# Altium integrated library Panasonic Relays PhotoMOS.IntLib: 50 symbols (part 2 of 2)
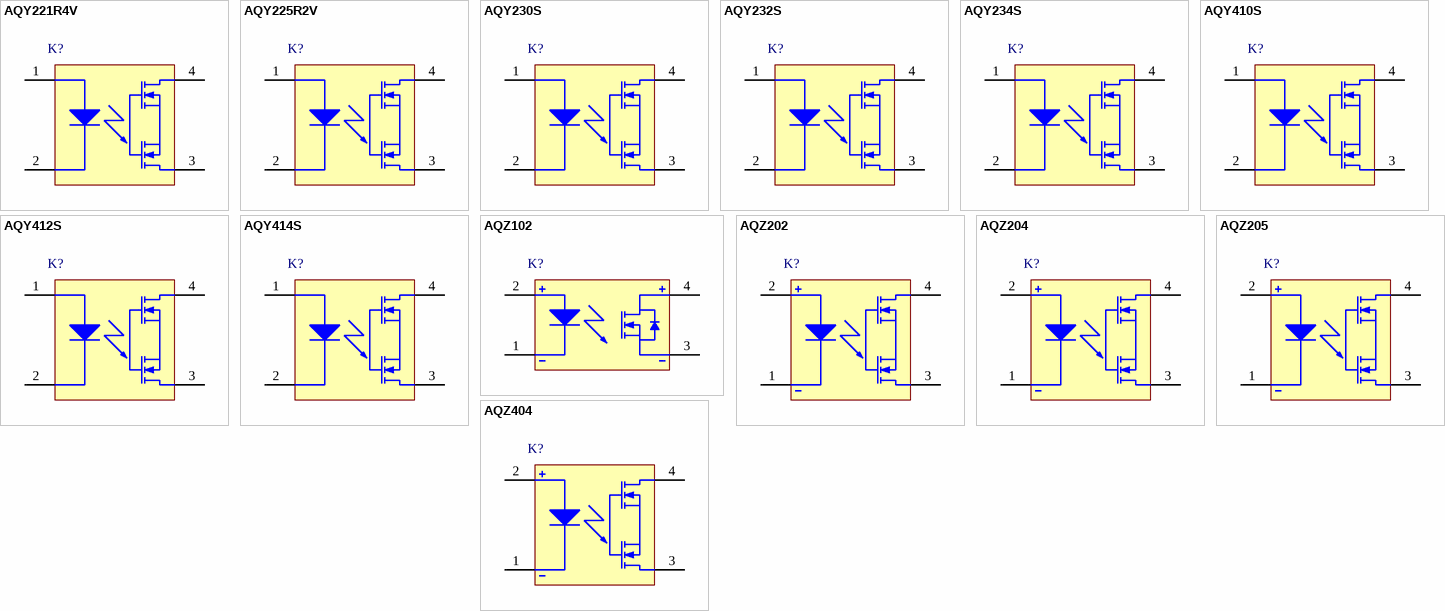
[diagram p2: symbols AQY221R4V to AQZ404]

## AQY232S
designator K?
PhotoMOS HE SOP 1 Form A, 60 V Load Voltage, 0.5 A Continuous Load Current, -40 to 85 degC, 4-Pin SOP, Tube, RoHS; Manufacturer: Panasonic; PartNumber: AQY232S; Continuous Load Current: 0.5 A; Load Voltage: 60 V; On Resistance (Typ): 0.85 Ohm; Pb-Free: True; DatasheetVersion: 201404-T; PackageVersion: ASCTB67E, 04/2014; PackageReference: SOP4; PackageDescription: 4-Pin Small Outline Package, Body 4.4 x 4.3 mm, Pitch 2.54 mm; Supplier 1: Mouser; Supplier Part Number 1: 769-AQY232S; Supplier 2: Digi-Key; Supplier Part Number 2: AQY232S-ND; Packing: Tube; RoHS: True; Series: PhotoMOS HE SOP 1 Form A; Mounting Technology: Surface Mount; ComponentLink1Description: Manufacturer URL; ComponentLink1URL: http://www3.panasonic.biz/ac/ae/index.jsp; ComponentLink2Description: Datasheet; ComponentLink2URL: http://www3.panasonic.biz/ac/e_download/control/relay/photomos/catalog/semi_eng_hs1a_aqy23_s.pdf?f_cd=301342; ComponentLink3Description: Package Specification; ComponentLink3URL: http://www3.panasonic.biz/ac/e_download/control/relay/photomos/catalog/semi_eng_dimensions.pdf?f_cd=401560
footprint PNSC-SOP4_V (SOP, 4-Leads, Body 4.4x4.3mm, Pitch 2.54mm)
pins: 1, 2, 3, 4

## AQY234S
designator K?
PhotoMOS HE SOP 1 Form A, 400 V Load Voltage, 0.1 A Continuous Load Current, -40 to 85 degC, 4-Pin SOP, Tube, RoHS; Manufacturer: Panasonic; PartNumber: AQY234S; Continuous Load Current: 0.1 A; Load Voltage: 400 V; On Resistance (Typ): 27 Ohm; Pb-Free: True; DatasheetVersion: 201404-T; PackageVersion: ASCTB67E, 04/2014; PackageReference: SOP4; PackageDescription: 4-Pin Small Outline Package, Body 4.4 x 4.3 mm, Pitch 2.54 mm; Supplier 1: Mouser; Supplier Part Number 1: 769-AQY234S; Supplier 2: Digi-Key; Supplier Part Number 2: AQY234S-ND; Packing: Tube; RoHS: True; Series: PhotoMOS HE SOP 1 Form A; Mounting Technology: Surface Mount; ComponentLink1Description: Manufacturer URL; ComponentLink1URL: http://www3.panasonic.biz/ac/ae/index.jsp; ComponentLink2Description: Datasheet; ComponentLink2URL: http://www3.panasonic.biz/ac/e_download/control/relay/photomos/catalog/semi_eng_hs1a_aqy23_s.pdf?f_cd=301342; ComponentLink3Description: Package Specification; ComponentLink3URL: http://www3.panasonic.biz/ac/e_download/control/relay/photomos/catalog/semi_eng_dimensions.pdf?f_cd=401560
footprint PNSC-SOP4_V (SOP, 4-Leads, Body 4.4x4.3mm, Pitch 2.54mm)
pins: 1, 2, 3, 4

## AQY410S
designator K?
PhotoMOS GU SOP 1 Form B, 350 V Load Voltage, 0.12 A Continuous Load Current, -40 to 85 degC, 4-Pin SOP, Tube, RoHS; Manufacturer: Panasonic; PartNumber: AQY410S; Continuous Load Current: 0.12 A; Load Voltage: 350 V; On Resistance (Typ): 18 Ohm; Pb-Free: True; DatasheetVersion: 201404-T; PackageVersion: ASCTB67E, 04/2014; PackageReference: SOP4; PackageDescription: 4-Pin Small Outline Package, Body 4.4 x 4.3 mm, Pitch 2.54 mm; Supplier 1: Mouser; Supplier Part Number 1: 769-AQY410S; Supplier 2: Digi-Key; Supplier Part Number 2: 255-1438-5-ND; Packing: Tube; RoHS: True; Series: PhotoMOS GU SOP 1 Form B; Mounting Technology: Surface Mount; ComponentLink1Description: Manufacturer URL; ComponentLink1URL: http://www3.panasonic.biz/ac/ae/index.jsp; ComponentLink2Description: Datasheet; ComponentLink2URL: http://www3.panasonic.biz/ac/e_download/control/relay/photomos/catalog/semi_eng_gu1b_aqy41_s.pdf?f_cd=301192; ComponentLink3Description: Package Specification; ComponentLink3URL: http://www3.panasonic.biz/ac/e_download/control/relay/photomos/catalog/semi_eng_dimensions.pdf?f_cd=401560
footprint PNSC-SOP4_V (SOP, 4-Leads, Body 4.4x4.3mm, Pitch 2.54mm)
pins: 1, 2, 3, 4

## AQY412S
designator K?
PhotoMOS GU SOP 1 Form B, 60 V Load Voltage, 0.5 A Continuous Load Current, -40 to 85 degC, 4-Pin SOP, Tube, RoHS; Manufacturer: Panasonic; PartNumber: AQY412S; Continuous Load Current: 0.5 A; Load Voltage: 60 V; On Resistance (Typ): 1 Ohm; Pb-Free: True; DatasheetVersion: 201404-T; PackageVersion: ASCTB67E, 04/2014; PackageReference: SOP4; PackageDescription: 4-Pin Small Outline Package, Body 4.4 x 4.3 mm, Pitch 2.54 mm; Supplier 1: Mouser; Supplier Part Number 1: 769-AQY412S; Supplier 2: Digi-Key; Supplier Part Number 2: 255-2697-ND; Packing: Tube; RoHS: True; Series: PhotoMOS GU SOP 1 Form B; Mounting Technology: Surface Mount; ComponentLink1Description: Manufacturer URL; ComponentLink1URL: http://www3.panasonic.biz/ac/ae/index.jsp; ComponentLink2Description: Datasheet; ComponentLink2URL: http://www3.panasonic.biz/ac/e_download/control/relay/photomos/catalog/semi_eng_gu1b_aqy41_s.pdf?f_cd=301192; ComponentLink3Description: Package Specification; ComponentLink3URL: http://www3.panasonic.biz/ac/e_download/control/relay/photomos/catalog/semi_eng_dimensions.pdf?f_cd=401560
footprint PNSC-SOP4_V (SOP, 4-Leads, Body 4.4x4.3mm, Pitch 2.54mm)
pins: 1, 2, 3, 4

## AQY414S
designator K?
PhotoMOS GU SOP 1 Form B, 400 V Load Voltage, 0.1 A Continuous Load Current, -40 to 85 degC, 4-Pin SOP, Tube, RoHS; Manufacturer: Panasonic; PartNumber: AQY414S; Continuous Load Current: 0.1 A; Load Voltage: 400 V; On Resistance (Typ): 26 Ohm; Pb-Free: True; DatasheetVersion: 201404-T; PackageVersion: ASCTB67E, 04/2014; PackageReference: SOP4; PackageDescription: 4-Pin Small Outline Package, Body 4.4 x 4.3 mm, Pitch 2.54 mm; Supplier 1: Mouser; Supplier Part Number 1: 769-AQY414S; Supplier 2: Digi-Key; Supplier Part Number 2: 255-1439-5-ND; Packing: Tube; RoHS: True; Series: PhotoMOS GU SOP 1 Form B; Mounting Technology: Surface Mount; ComponentLink1Description: Manufacturer URL; ComponentLink1URL: http://www3.panasonic.biz/ac/ae/index.jsp; ComponentLink2Description: Datasheet; ComponentLink2URL: http://www3.panasonic.biz/ac/e_download/control/relay/photomos/catalog/semi_eng_gu1b_aqy41_s.pdf?f_cd=301192; ComponentLink3Description: Package Specification; ComponentLink3URL: http://www3.panasonic.biz/ac/e_download/control/relay/photomos/catalog/semi_eng_dimensions.pdf?f_cd=401560
footprint PNSC-SOP4_V (SOP, 4-Leads, Body 4.4x4.3mm, Pitch 2.54mm)
pins: 1, 2, 3, 4

## AQZ102
designator K?
PhotoMOS Power 1 Form A, 60 V Load Voltage, 4 A Continuous Load Current, -40 to 85 degC, 4-Pin SIL, Carton, RoHS; Manufacturer: Panasonic; PartNumber: AQZ102; Continuous Load Current: 4 A; Load Voltage: 60 V; On Resistance (Typ): 0.05 Ohm; Pb-Free: True; DatasheetVersion: 201404-T; PackageVersion: ASCTB67E, 04/2014; PackageReference: SIL4; PackageDescription: 4-Pin Through Hole Terminal Package, Body 21 x 3.5 mm; Supplier 1: Mouser; Supplier Part Number 1: 769-AQZ102; Supplier 2: Digi-Key; Supplier Part Number 2: 255-1567-ND; Packing: Carton; RoHS: True; Series: PhotoMOS Power 1 Form A; Mounting Technology: Through Hole; ComponentLink1Description: Manufacturer URL; ComponentLink1URL: http://www3.panasonic.biz/ac/ae/index.jsp; ComponentLink2Description: Datasheet; ComponentLink2URL: http://www3.panasonic.biz/ac/e_download/control/relay/photomos/catalog/semi_eng_pwr1a_aqz10_20.pdf?f_cd=301362; ComponentLink3Description: Package Specification; ComponentLink3URL: http://www3.panasonic.biz/ac/e_download/control/relay/photomos/catalog/semi_eng_dimensions.pdf?f_cd=401560
footprint PNSC-SIL4_V (SIL, 4-Leads, Body 21x3.5mm)
pins: 1 -, 2 +, 3 -, 4 +

## AQZ202
designator K?
PhotoMOS Power 1 Form A, 60 V Load Voltage, 3 A Continuous Load Current, -40 to 85 degC, 4-Pin SIL, Carton, RoHS; Manufacturer: Panasonic; PartNumber: AQZ202; Continuous Load Current: 3 A; Load Voltage: 60 V; On Resistance (Typ): 0.11 Ohm; Pb-Free: True; DatasheetVersion: 201404-T; PackageVersion: ASCTB67E, 04/2014; PackageReference: SIL4; PackageDescription: 4-Pin Through Hole Terminal Package, Body 21 x 3.5 mm; Supplier 1: Mouser; Supplier Part Number 1: 769-AQZ202; Supplier 2: Digi-Key; Supplier Part Number 2: 255-1569-ND; Packing: Carton; RoHS: True; Series: PhotoMOS Power 1 Form A; Mounting Technology: Through Hole; ComponentLink1Description: Manufacturer URL; ComponentLink1URL: http://www3.panasonic.biz/ac/ae/index.jsp; ComponentLink2Description: Datasheet; ComponentLink2URL: http://www3.panasonic.biz/ac/e_download/control/relay/photomos/catalog/semi_eng_pwr1a_aqz10_20.pdf?f_cd=301362; ComponentLink3Description: Package Specification; ComponentLink3URL: http://www3.panasonic.biz/ac/e_download/control/relay/photomos/catalog/semi_eng_dimensions.pdf?f_cd=401560
footprint PNSC-SIL4_V (SIL, 4-Leads, Body 21x3.5mm)
pins: 1 -, 2 +, 3, 4

## AQZ204
designator K?
PhotoMOS Power 1 Form A, 400 V Load Voltage, 0.5 A Continuous Load Current, -40 to 85 degC, 4-Pin SIL, Carton, RoHS; Manufacturer: Panasonic; PartNumber: AQZ204; Continuous Load Current: 0.5 A; Load Voltage: 400 V; On Resistance (Typ): 2.1 Ohm; Pb-Free: True; DatasheetVersion: 201404-T; PackageVersion: ASCTB67E, 04/2014; PackageReference: SIL4; PackageDescription: 4-Pin Through Hole Terminal Package, Body 21 x 3.5 mm; Supplier 1: Mouser; Supplier Part Number 1: 769-AQZ204; Supplier 2: Digi-Key; Supplier Part Number 2: 255-1985-ND; Packing: Carton; RoHS: True; Series: PhotoMOS Power 1 Form A; Mounting Technology: Through Hole; ComponentLink1Description: Manufacturer URL; ComponentLink1URL: http://www3.panasonic.biz/ac/ae/index.jsp; ComponentLink2Description: Datasheet; ComponentLink2URL: http://www3.panasonic.biz/ac/e_download/control/relay/photomos/catalog/semi_eng_pwr1a_aqz10_20.pdf?f_cd=301362; ComponentLink3Description: Package Specification; ComponentLink3URL: http://www3.panasonic.biz/ac/e_download/control/relay/photomos/catalog/semi_eng_dimensions.pdf?f_cd=401560
footprint PNSC-SIL4_V (SIL, 4-Leads, Body 21x3.5mm)
pins: 1 -, 2 +, 3, 4

## AQZ205
designator K?
PhotoMOS Power 1 Form A, 100 V Load Voltage, 2 A Continuous Load Current, -40 to 85 degC, 4-Pin SIL, Carton, RoHS; Manufacturer: Panasonic; PartNumber: AQZ205; Continuous Load Current: 2 A; Load Voltage: 100 V; On Resistance (Typ): 0.23 Ohm; Pb-Free: True; DatasheetVersion: 201404-T; PackageVersion: ASCTB67E, 04/2014; PackageReference: SIL4; PackageDescription: 4-Pin Through Hole Terminal Package, Body 21 x 3.5 mm; Supplier 1: Mouser; Supplier Part Number 1: 769-AQZ205; Supplier 2: Digi-Key; Supplier Part Number 2: 255-1570-ND; Packing: Carton; RoHS: True; Series: PhotoMOS Power 1 Form A; Mounting Technology: Through Hole; ComponentLink1Description: Manufacturer URL; ComponentLink1URL: http://www3.panasonic.biz/ac/ae/index.jsp; ComponentLink2Description: Datasheet; ComponentLink2URL: http://www3.panasonic.biz/ac/e_download/control/relay/photomos/catalog/semi_eng_pwr1a_aqz10_20.pdf?f_cd=301362; ComponentLink3Description: Package Specification; ComponentLink3URL: http://www3.panasonic.biz/ac/e_download/control/relay/photomos/catalog/semi_eng_dimensions.pdf?f_cd=401560
footprint PNSC-SIL4_V (SIL, 4-Leads, Body 21x3.5mm)
pins: 1 -, 2 +, 3, 4

## AQZ404
designator K?
PhotoMOS Power 1 Form B, 400 V Load Voltage, 0.5 A Continuous Load Current, -40 to 85 degC, 4-Pin SIL, Carton, RoHS; Manufacturer: Panasonic; PartNumber: AQZ404; Continuous Load Current: 0.5 A; Load Voltage: 400 V; On Resistance (Typ): 2.8 Ohm; Pb-Free: True; DatasheetVersion: 201404-T; PackageVersion: ASCTB67E, 04/2014; PackageReference: SIL4; PackageDescription: 4-Pin Through Hole Terminal Package, Body 21 x 3.5 mm; Supplier 1: Mouser; Supplier Part Number 1: 769-AQZ404; Supplier 2: Digi-Key; Supplier Part Number 2: 255-2154-5-ND; Packing: Carton; RoHS: True; Series: PhotoMOS Power 1 Form B; Mounting Technology: Through Hole; ComponentLink1Description: Manufacturer URL; ComponentLink1URL: http://www3.panasonic.biz/ac/ae/index.jsp; ComponentLink2Description: Datasheet; ComponentLink2URL: http://www3.panasonic.biz/ac/e_download/control/relay/photomos/catalog/semi_eng_pwr1b_aqz40.pdf?f_cd=301392; ComponentLink3Description: Package Specification; ComponentLink3URL: http://www3.panasonic.biz/ac/e_download/control/relay/photomos/catalog/semi_eng_dimensions.pdf?f_cd=401560
footprint PNSC-SIL4_V (SIL, 4-Leads, Body 21x3.5mm)
pins: 1 -, 2 +, 3, 4